# Altium schematic symbol library Another_flashlight.SchLib: 2 symbols
Pins are listed as number, name and electrical type; pins without a type are passive.

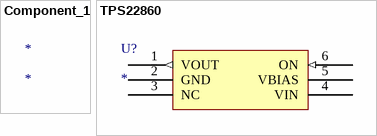
[diagram p0: symbols Component_1 to TPS22860]

## Component_1
designator *

## TPS22860
designator U?
footprint TSOP95P280X145-6N (TSOP, 6-Leads, Body 2.90x1.60mm, Pitch 0.95mm, IPC Medium Density)
pins: 1 VOUT (out), 2 GND (power), 3 NC, 4 VIN (power), 5 VBIAS (power), 6 ON (in)